# Altium integrated library Integrated_Library1.IntLib: 19 symbols
Pins are listed as number, name and electrical type; pins without a type are passive.

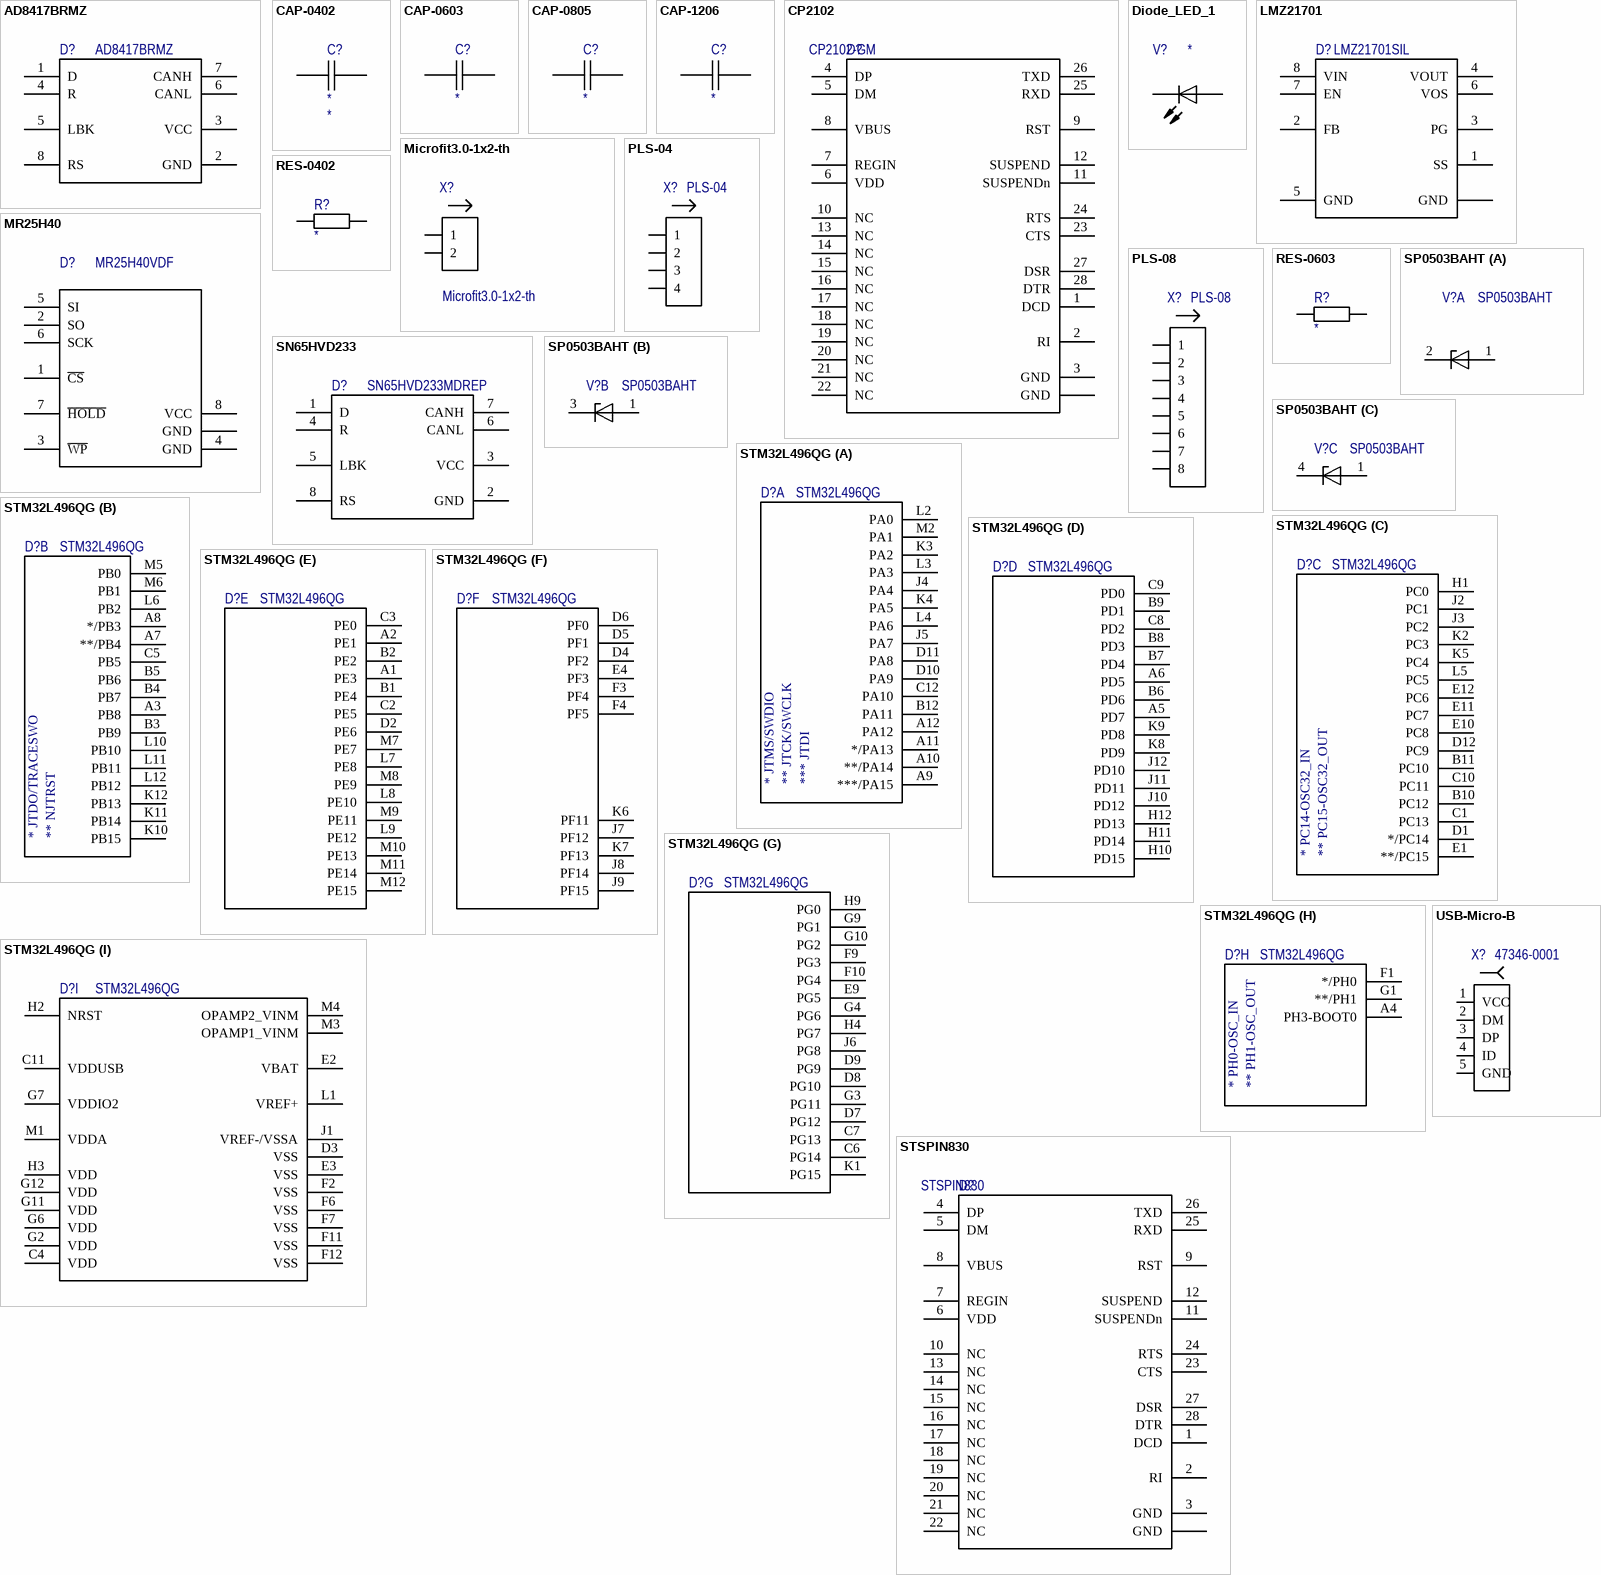
[diagram p0: symbols AD8417BRMZ to USB-Micro-B]

## AD8417BRMZ
designator D?
Интегральная микросхема; Manufacturer: TI; Part Number: AD8417BRMZ
footprint MSOP-8
pins: 1 D, 2 GND, 3 VCC, 4 R, 5 LBK, 6 CANL, 7 CANH, 8 RS

## CAP-0402
designator C?, comment CAP-*-*-*-*-0402  (value not drawn)
Конденсатор; Part Number: *; Manufacturer: *; Temperature: *; Tolerance: *; Value: *; Voltage: *
footprint CAP-0402
pins: 1, 2

## CAP-0603
designator C?, comment CAP-*-*-*-*-0603  (value not drawn)
Конденсатор; Part Number: *; Manufacturer: *; Temperature: *; Tolerance: *; Voltage: *; Value: *
footprint CAP-0603
pins: 1, 2

## CAP-0805
designator C?, comment CAP-*-*-*-*-0805  (value not drawn)
Конденсатор; Part Number: *; Manufacturer: *; Temperature: *; Tolerance: *; Voltage: *; Value: *
footprint CAP-0805
pins: 1, 2

## CAP-1206
designator C?, comment CAP-*-*-*-*-1206  (value not drawn)
Конденсатор; Part Number: *; Manufacturer: *; Temperature: *; Tolerance: *; Voltage: *; Value: *
footprint CAP-1206
pins: 1, 2

## CP2102
designator D?, comment CP2102-GM
Интегральная микросхема; Manufacturer: SiLabs; Part Number: CP2102-GM
footprint QFN-28-5x5
pins: 1 DCD, 2 RI, 3 GND, 4 DP, 5 DM, 6 VDD, 7 REGIN, 8 VBUS, 9 RST, 10 NC, 11 SUSPENDn, 12 SUSPEND, 13 NC, 14 NC, 15 NC, 16 NC, 17 NC, 18 NC, 19 NC, 20 NC, 21 NC, 22 NC, 23 CTS, 24 RTS, 25 RXD, 26 TXD, 27 DSR, 28 DTR, PAD GND

## Diode_LED_1
designator V?
Диод светоизлучающий; Manufacturer: *; Part Number: *
pins: A, C

## LMZ21701
designator D?, comment LMZ21701SIL
Интегральная микросхема; Manufacturer: TI; Part Number: LMZ21701SIL
footprint uSIP_SIL0008E
pins: 1 SS, 2 FB, 3 PG, 4 VOUT, 5 GND, 6 VOS, 7 EN, 8 VIN, PAD GND

## Microfit3.0-1x2-th
designator X?
Manufacturer: *; Part Number: Microfit3.0-1x2-th
footprint Microfit3.0-1x2-th (Micro-Fit 3.0 Right-Angle Header, 3.00mm Pitch, Single Row, 2 Circuits, with Snap-in Plastic Peg PCB Lock, Tin, Glow-Wire Capable, Black)
pins: 1, 2

## MR25H40
designator D?, comment MR25H40VDF
Интегральная микросхема, SPI MRAM; Manufacturer: Everspin; Part Number: MR25H40VDF
footprint DFN-8-5x6-SMALL_FLAG (Стандатный (5x6x0.90).)
pins: 1 ~{CS}, 2 SO, 3 ~{WP}, 4 GND, 5 SI, 6 SCK, 7 ~{HOLD}, 8 VCC, PAD GND

## PLS-04
designator X?
Manufacturer: *; Part Number: PLS-04
footprint PLS-04
pins: 1, 2, 3, 4

## PLS-08
designator X?
Manufacturer: *; Part Number: PLS-08
footprint PLS-08
pins: 1, 2, 3, 4, 5, 6, 7, 8

## RES-0402
designator R?, comment RES-*-*-*-0402  (value not drawn)
Резистор; Part Number: *; Manufacturer: *; Tolerance: *; Power: *; Value: *
footprint RES-0402
pins: 1, 2

## RES-0603
designator R?, comment RES-*-*-*-0603  (value not drawn)
Резистор; Part Number: *; Manufacturer: *; Tolerance: *; Power: *; Value: *
footprint RES-0603
pins: 1, 2

## SN65HVD233
designator D?, comment SN65HVD233MDREP
Интегральная микросхема; Manufacturer: TI; Part Number: SN65HVD233MDREP
footprint SO-8 (Стандатный (4.9x6x1.75).)
pins: 1 D, 2 GND, 3 VCC, 4 R, 5 LBK, 6 CANL, 7 CANH, 8 RS

## SP0503BAHT
designator V?
Диод лавинный выпрямительный (стабилитрон), 3 в 1; Manufacturer: Littlefuse; Part Number: SP0503BAHT
footprint SOT-143
part A pins: 1, 2
part B pins: 1, 3
part C pins: 1, 4

## STM32L496QG
designator D?
Интегральная микросхема; Manufacturer: ST; Part Number: STM32L496QG
footprint UFBGA132 (STM32L496QG*, 132-ball, 7x7 ultra thin fine pitch bga package)
part A pins: A9 ***/PA15, A10 **/PA14, A11 */PA13, A12 PA12, B12 PA11, C12 PA10, D10 PA9, D11 PA8, J4 PA4, J5 PA7, K3 PA2, K4 PA5, L2 PA0, L3 PA3, L4 PA6, M2 PA1
part B pins: A3 PB8, A7 **/PB4, A8 */PB3, B3 PB9, B4 PB7, B5 PB6, C5 PB5, K10 PB15, K11 PB14, K12 PB13, L6 PB2, L10 PB10, L11 PB11, L12 PB12, M5 PB0, M6 PB1
part C pins: B10 PC12, B11 PC10, C1 PC13, C10 PC11, D1 */PC14, D12 PC9, E1 **/PC15, E10 PC8, E11 PC7, E12 PC6, H1 PC0, J2 PC1, J3 PC2, K2 PC3, K5 PC4, L5 PC5
part D pins: A5 PD7, A6 PD5, B6 PD6, B7 PD4, B8 PD3, B9 PD1, C8 PD2, C9 PD0, H10 PD15, H11 PD14, H12 PD13, J10 PD12, J11 PD11, J12 PD10, K8 PD9, K9 PD8
part E pins: A1 PE3, A2 PE1, B1 PE4, B2 PE2, C2 PE5, C3 PE0, D2 PE6, L7 PE8, L8 PE10, L9 PE12, M7 PE7, M8 PE9, M9 PE11, M10 PE13, M11 PE14, M12 PE15
part F pins: D4 PF2, D5 PF1, D6 PF0, E4 PF3, F3 PF4, F4 PF5, J7 PF12, J8 PF14, J9 PF15, K6 PF11, K7 PF13
part G pins: C6 PG14, C7 PG13, D7 PG12, D8 PG10, D9 PG9, E9 PG5, F9 PG3, F10 PG4, G3 PG11, G4 PG6, G9 PG1, G10 PG2, H4 PG7, H9 PG0, J6 PG8, K1 PG15
part H pins: A4 PH3-BOOT0, F1 */PH0, G1 **/PH1
part I pins: C4 VDD, C11 VDDUSB, D3 VSS, E2 VBAT, E3 VSS, F2 VSS, F6 VSS, F7 VSS, F11 VSS, F12 VSS, G2 VDD, G6 VDD, G7 VDDIO2, G11 VDD, G12 VDD, H2 NRST, H3 VDD, J1 VREF-/VSSA, L1 VREF+, M1 VDDA, M3 OPAMP1_VINM, M4 OPAMP2_VINM
part A text: * JTMS/SWDIO; ** JTCK/SWCLK; *** JTDI
part B text: * JTDO/TRACESWO; ** NJTRST
part C text: * PC14-OSC32_IN; ** PC15-OSC32_OUT
part H text: * PH0-OSC_IN; ** PH1-OSC_OUT

## STSPIN830
designator D?
Интегральная микросхема; Manufacturer: SiLabs; Part Number: STSPIN830
footprint QFN-24-4X4
pins: 1 DCD, 2 RI, 3 GND, 4 DP, 5 DM, 6 VDD, 7 REGIN, 8 VBUS, 9 RST, 10 NC, 11 SUSPENDn, 12 SUSPEND, 13 NC, 14 NC, 15 NC, 16 NC, 17 NC, 18 NC, 19 NC, 20 NC, 21 NC, 22 NC, 23 CTS, 24 RTS, 25 RXD, 26 TXD, 27 DSR, 28 DTR, PAD GND

## USB-Micro-B
designator X?, comment 47346-0001
Manufacturer: Molex; Part Number: 47346-0001
footprint 473460001 (Molex, USB-B micro)
pins: 1 VCC, 2 DM, 3 DP, 4 ID, 5 GND